# Altium integrated library RN73H1ETTP26R4F50.IntLib: 1 symbol
Pins are listed as number, name and electrical type; pins without a type are passive.

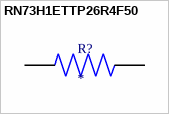
[diagram p0: symbol RN73H1ETTP26R4F50]

## RN73H1ETTP26R4F50
designator R?
MP: RN73H1ETTP26R4F50; Package: None; Price: None; Value: *; Availability: Unavailable
footprint RESC1005X40N
pins: 1, 2